# Altium schematic symbol library header.SchLib: 1 symbol
Pins are listed as number, name and electrical type; pins without a type are passive.

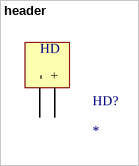
[diagram p0: symbol header]

## header
designator HD?
footprint header
pins: 0 -, 1 +
text: HD